# EAGLE library part ARDUINO_MINI_PRO (library my_lib)
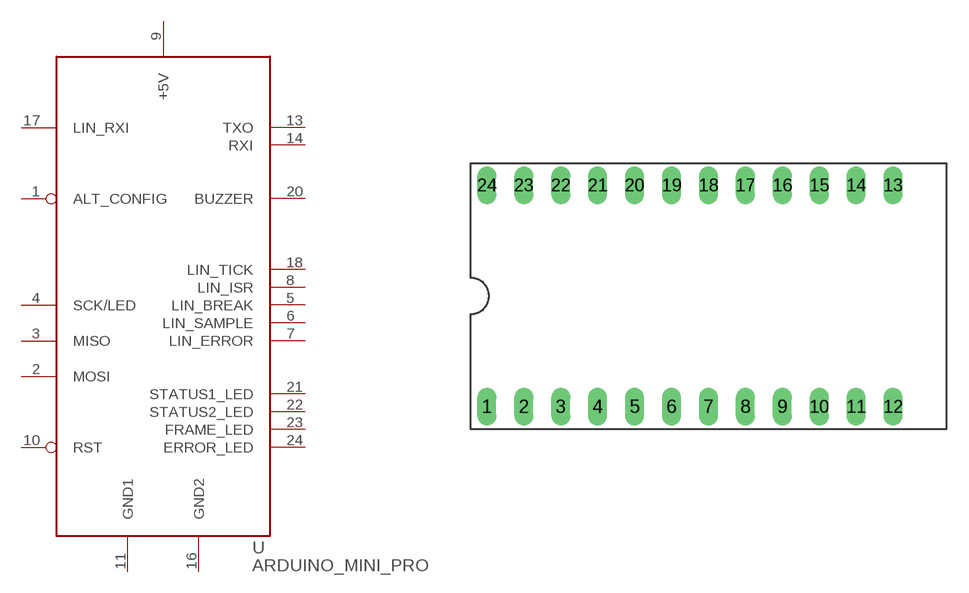
[diagram p0: symbol with the pads of ARDUINO-PRO-MINI; footprint ARDUINO-PRO-MINI]

Designator prefix -

## ARDUINO_MINI_PRODIP24-6  [ARDUINO-PRO-MINI]
1  ALT_CONFIG  in
2  MOSI  in
3  MISO  in
4  SCK/LED  out
5  LIN_BREAK  out
6  LIN_SAMPLE  out
7  LIN_ERROR  out
8  LIN_ISR  out
9  +5V  pwr
10  RST  in
11  GND1  pwr
13  TXO  in
14  RXI  out
16  GND2  pwr
17  LIN_RXI  in
18  LIN_TICK  out
20  BUZZER  out
21  STATUS1_LED  out
22  STATUS2_LED  out
23  FRAME_LED  out
24  ERROR_LED  out

## Footprint ARDUINO-PRO-MINI (pad centres in mm)
drill 0.813 long: 1 -12.7,-7.62; 2 -10.16,-7.62; 3 -7.62,-7.62; 4 -5.08,-7.62; 5 -2.54,-7.62; 6 0,-7.62; 7 2.54,-7.62; 8 5.08,-7.62; 9 7.62,-7.62; 10 10.16,-7.62; 11 12.7,-7.62; 12 15.24,-7.62; 13 15.24,7.62; 14 12.7,7.62; 15 10.16,7.62; 16 7.62,7.62; 17 5.08,7.62; 18 2.54,7.62; 19 0,7.62; 20 -2.54,7.62; 21 -5.08,7.62; 22 -7.62,7.62; 23 -10.16,7.62; 24 -12.7,7.62